# Altium footprint library WAKEFIELD_OMNI-UNI-34-50.pcblib: 1 footprints
Each footprint in its own frame and in the unit in brackets; x right, y up, seen from the top. Pads: shape width x height; smd on the part's side, far side on the other; paste and mask are expansions set on the pad; w line width, h text height; cw(c..) or ccw(c..) is an arc to the next point about the centre after c.
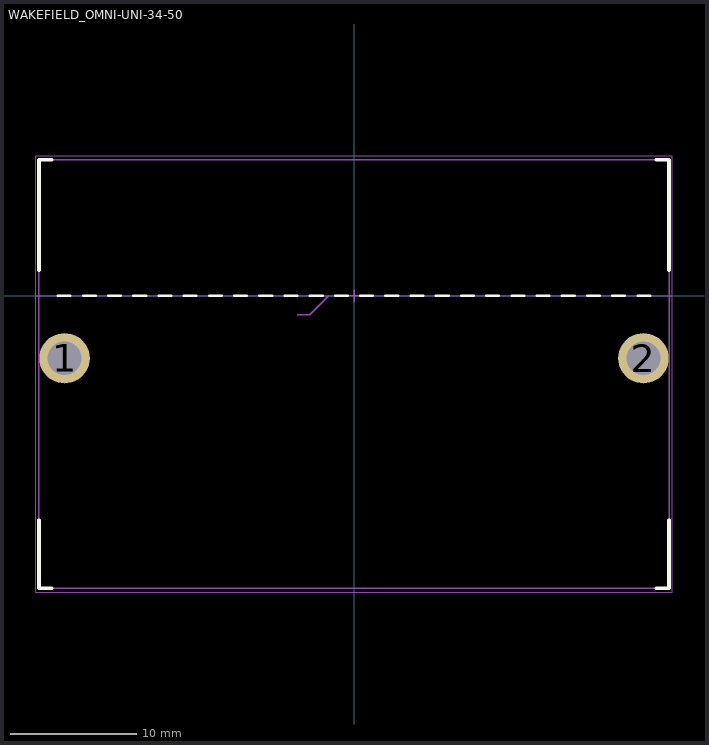
[diagram p0: the footprint, top view; thin cyan lines are the x and y axes]

## WAKEFIELD_OMNI-UNI-34-50 [mm]
height 75
pads (2):
  round 4 hole 2.67: 1(-22.97,-4.95) 2(22.97,-4.95)
Top Overlay:
  lines w0.2: -23.5,0 -22.5,0 ; -21.5,0 -20.5,0 ; -19.5,0 -18.5,0 ; -17.5,0 -16.5,0 ; -15.5,0 -14.5,0 ; -13.5,0 -12.5,0 ; -11.5,0 -10.5,0 ; -9.5,0 -8.5,0 ; -7.5,0 -6.5,0 ; -5.5,0 -4.5,0 ; -3.5,0 -2.5,0 ; -1.5,0 -0.5,0 ; 0.5,0 1.5,0 ; 2.5,0 3.5,0 ; 4.5,0 5.5,0 ; 6.5,0 7.5,0 ; 8.5,0 9.5,0 ; 10.5,0 11.5,0 ; 12.5,0 13.5,0 ; 14.5,0 15.5,0 ; 16.5,0 17.5,0 ; 18.5,0 19.5,0 ; 20.5,0 21.5,0 ; 22.5,0 23.5,0
  lines w0.3: -25,-17.8 -25,-23.2 -24,-23.2 ; -25,2.06 -25,10.8 -24,10.8 ; 24,-23.2 25,-23.2 25,-17.8 ; 24,10.8 25,10.8 25,2.06
Mechanical 13:
  lines w0.1: -25,-23.2 -25,10.8 25,10.8 25,-23.2 -25,-23.2
Mechanical 15:
  lines w0.05: -25.25,0 25.25,0 ; -25.25,-23.5 25.25,-23.5 25.25,11.1 -25.25,11.1 -25.25,-23.5
  lines w0.1: -4.5,-1.5 -3.5,-1.5 -2,0 ; -0.5,0 0.5,0 ; 0,-0.5 0,0.5
  text "Thermal Interface" at -16.617,-2 h1
3D body "WAKEFIELD_OMNI-UNI-34-50.stp": height 75.05, standoff -3.8, extent -25,-23.197 25,10.798